# Altium integrated library NEC Peripheral Speech Processor.IntLib: 1 symbol
Pins are listed as number, name and electrical type; pins without a type are passive.

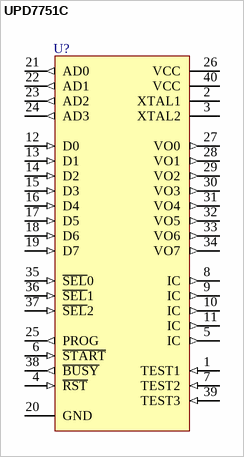
[diagram p0: symbol UPD7751C]

## UPD7751C
designator U?
ADPCM Voice Synthesis LSI; Published: 8-Jun-2000; LatestRevisionDate: 17-Jul-2002; LatestRevisionNote: Re-released for DXP Platform.; DatasheetVersion: 1984; PackageVersion: 1984; PackageReference: PDIP40; Publisher: Altium Limited; PackageDescription: DIP; 40 Leads; Row Spacing 15.24 mm; Pitch 2.54 mm; ComponentLink1Description: Manufacturer Link; ComponentLink1URL: http://www.necel.com/
footprint PDIP40 (DIP; 40 Leads; Row Spacing 15.24 mm; Pitch 2.54 mm)
pins: 1 TEST1 (in), 2 XTAL1, 3 XTAL2, 4 ~{RST} (in), 5 IC (out), 6 ~{START} (in), 7 TEST2 (in), 8 IC (out), 9 IC (out), 10 IC (out), 11 IC (out), 12 D0 (in), 13 D1 (in), 14 D2 (in), 15 D3 (in), 16 D4 (in), 17 D5 (in), 18 D6 (in), 19 D7 (in), 20 GND (power), 21 AD0 (out), 22 AD1 (out), 23 AD2 (out), 24 AD3 (out), 25 PROG (out), 26 VCC (power), 27 VO0 (out), 28 VO1 (out), 29 VO2 (out), 30 VO3 (out), 31 VO4 (out), 32 VO5 (out), 33 VO6 (out), 34 VO7 (out), 35 ~{SEL}0 (in), 36 ~{SEL}1 (in), 37 ~{SEL}2 (in), 38 ~{BUSY} (out), 39 TEST3 (in), 40 VCC (power)